# Altium schematic symbol library SamacSys_Parts.SchLib: 2 symbols
Pins are listed as number, name and electrical type; pins without a type are passive.

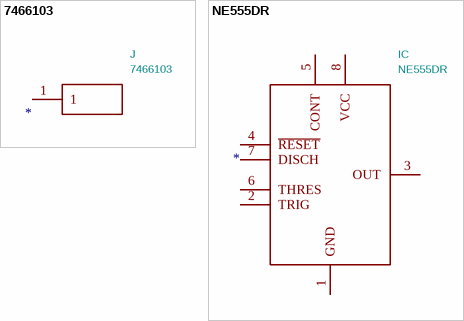
[diagram p0: symbols 7466103 to NE555DR]

## 7466103
designator J  value 7466103
Wurth Elektronik, REDCUBE M3 Bush; Footprint: 7466103; Supplier: https://componentsearchengine.com/Datasheets/2/7466103.pdf; Description_: Wurth Elektronik, REDCUBE M3 Bush; Height: 7; Manufacturer_Name: Wurth Elektronik; Manufacturer_Part_Number: 7466103
footprint 7466103
pins: 1

## NE555DR
designator IC  value NE555DR
Single Precision Timer; Manufacturer_Name: Texas Instruments; Footprint: SOIC127P600X175-8N; Supplier: http://www.ti.com/lit/ds/symlink/ne555.pdf; Description_: Single Precision Timer; Height: 1.75; Manufacturer_Part_Number: NE555DR; Mouser Part Number: 595-NE555DR; Mouser Price/Stock: https://www.mouser.com/Search/Refine.aspx?Keyword=595-NE555DR; RS Part Number: 1218414; RS Price/Stock: http//uk.rs-online.com/web/p/products/1218414
footprint SOIC127P600X175-8N
pins: 1 GND, 2 TRIG, 3 OUT, 4 ~{RESET}, 5 CONT, 6 THRES, 7 DISCH, 8 VCC